# EAGLE library part DRV8432 (library ijrobotics)
DRV8432 Driver para dos motores, un motor o motor de pasos
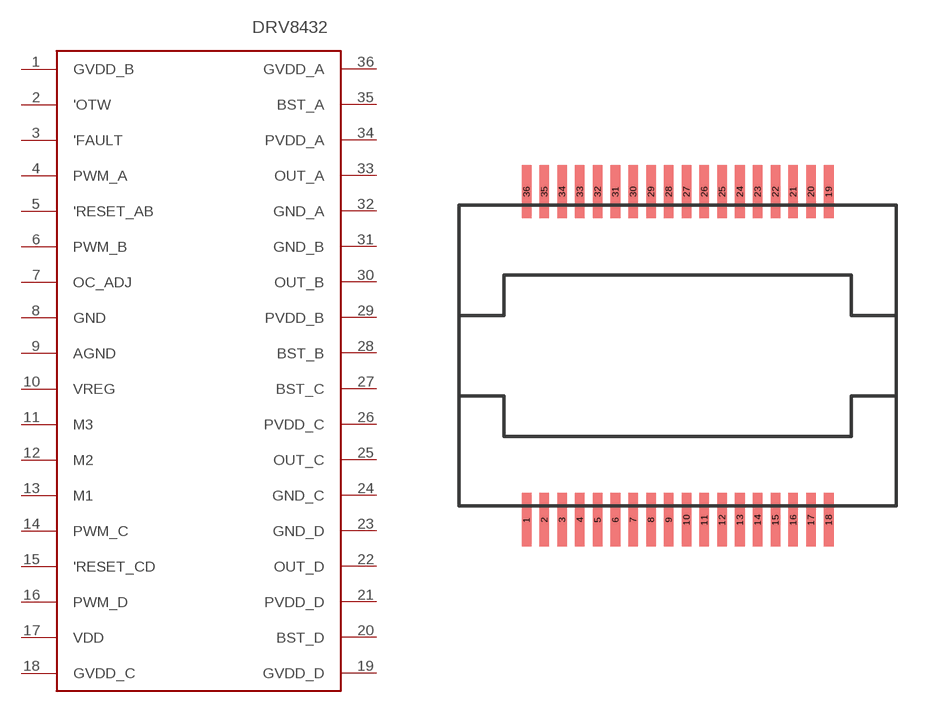
[diagram p0: symbol with the pads of DRV8432; footprint DRV8432]

Designator prefix -

## DRV8432  [DRV8432]
1  GVDD_B
2  'OTW
3  'FAULT
4  PWM_A
5  'RESET_AB
6  PWM_B
7  OC_ADJ
8  GND
9  AGND
10  VREG
11  M3
12  M2
13  M1
14  PWM_C
15  'RESET_CD
16  PWM_D
17  VDD
18  GVDD_C
19  GVDD_D
20  BST_D
21  PVDD_D
22  OUT_D
23  GND_D
24  GND_C
25  OUT_C
26  PVDD_C
27  BST_C
28  BST_B
29  PVDD_B
30  OUT_B
31  GND_B
32  GND_A
33  OUT_A
34  PVDD_A
35  BST_A
36  GVDD_A

## Footprint DRV8432 (pad centres in mm)
DRV8432 Driver para dos motores, un motor o motor de pasos
smd 0.35 x 1.95: 1 -5.525,-6; 2 -4.875,-6; 3 -4.225,-6; 4 -3.575,-6; 5 -2.925,-6; 6 -2.275,-6; 7 -1.625,-6; 8 -0.975,-6; 9 -0.325,-6; 10 0.325,-6; 11 0.975,-6; 12 1.625,-6; 13 2.275,-6; 14 2.925,-6; 15 3.575,-6; 16 4.225,-6; 17 4.875,-6; 18 5.525,-6; 19 5.525,6; 20 4.875,6; 21 4.225,6; 22 3.575,6; 23 2.925,6; 24 2.275,6; 25 1.625,6; 26 0.975,6; 27 0.325,6; 28 -0.325,6; 29 -0.975,6; 30 -1.625,6; 31 -2.275,6; 32 -2.925,6; 33 -3.575,6; 34 -4.225,6; 35 -4.875,6; 36 -5.525,6